# Altium footprint library CON-IDC.PcbLib: 62 footprints (part 3 of 4)
Each footprint in its own frame and in the unit in brackets; x right, y up, seen from the top. Pads: shape width x height; smd on the part's side, far side on the other; paste and mask are expansions set on the pad; w line width, h text height; cw(c..) or ccw(c..) is an arc to the next point about the centre after c.
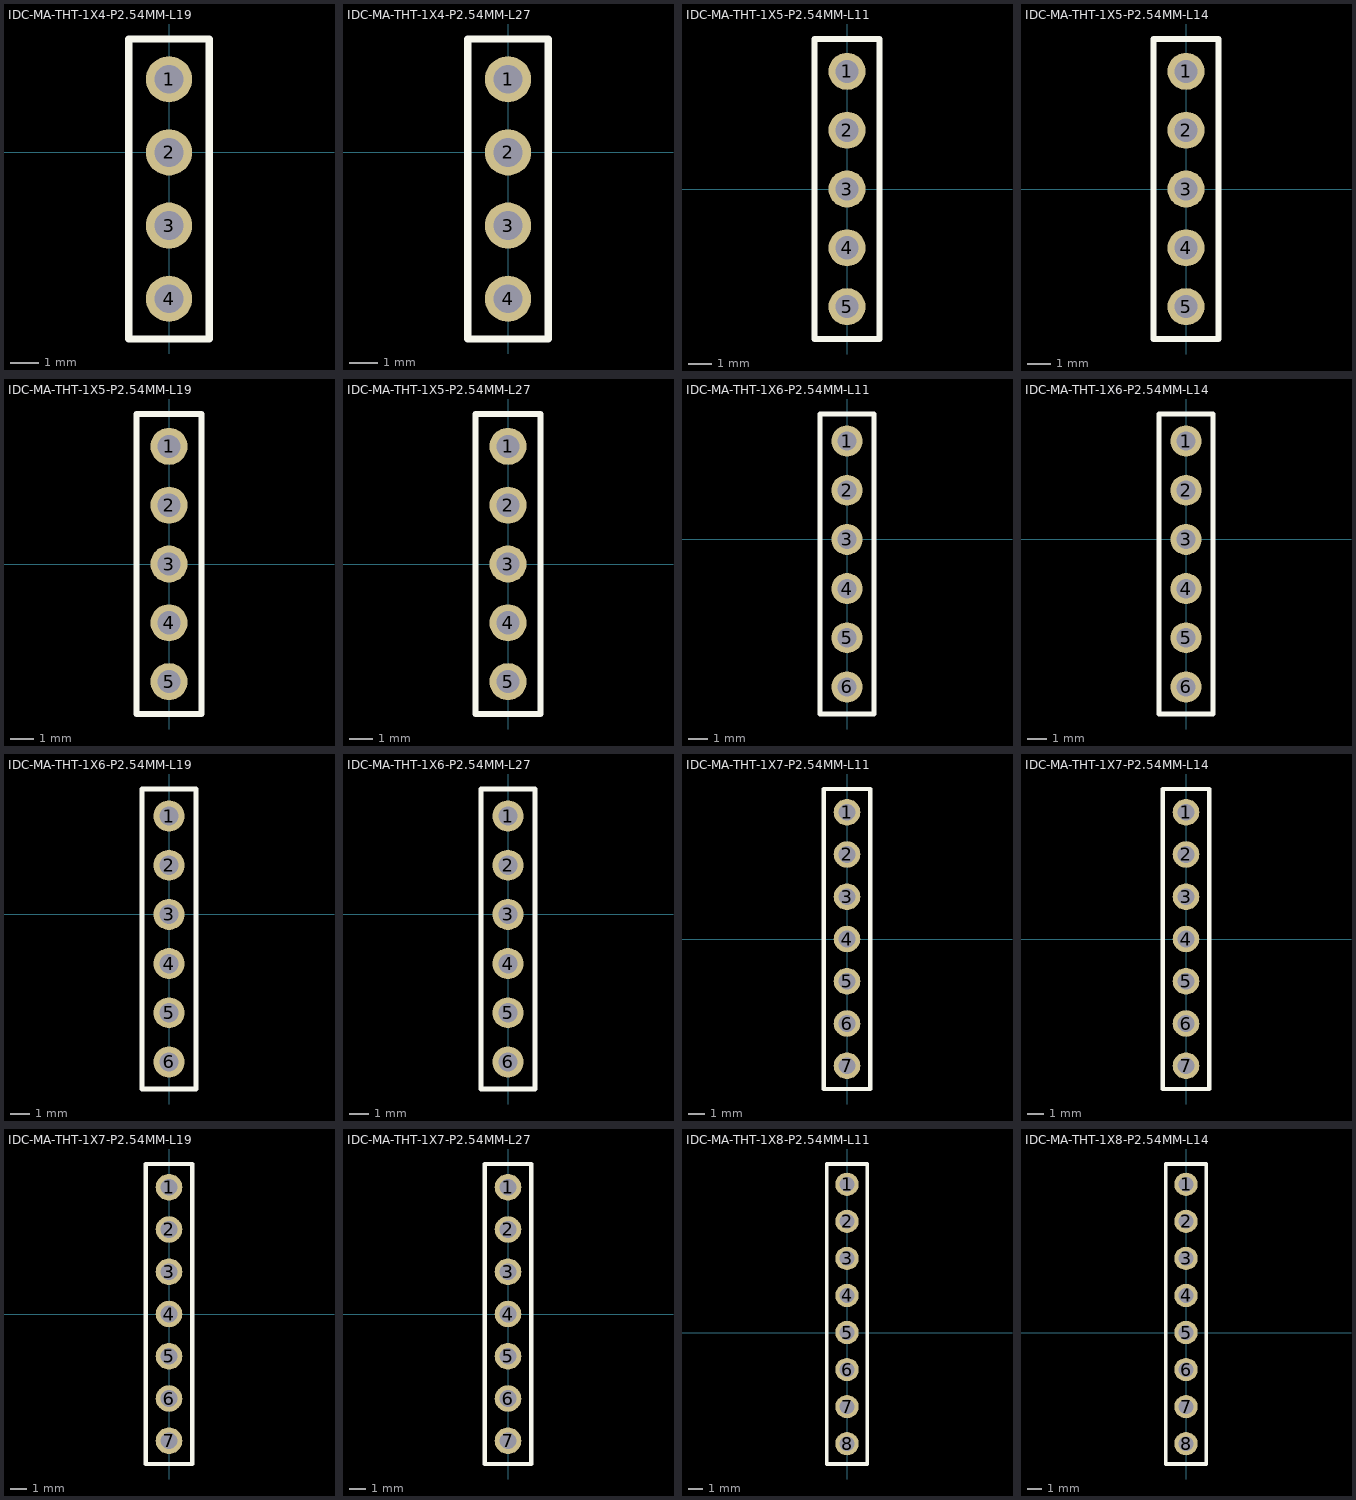
[diagram p2: the footprints below, top view; thin cyan lines are the x and y axes]

## IDC-MA-THT-1X4-P2.54MM-L19 [mm] "IDC-MA-THT-1X4-P2.54MM-L19"
pads (4):
  round 1.6 hole 1: 1(0,2.54) 2(0,0) 3(0,-2.54) 4(0,-5.08)
Top Overlay:
  lines w0.254: -1.397,-6.477 -1.397,3.937 1.397,3.937 1.397,-6.477 -1.397,-6.477
3D body "CON-PIN-L19.stp": height 16.96, standoff -2.54, extent -1.27,1.27 1.27,3.81
3D body "CON-PIN-L19.stp": height 16.96, standoff -2.54, extent -1.27,-1.27 1.27,1.27
3D body "CON-PIN-L19.stp": height 16.96, standoff -2.54, extent -1.27,-3.81 1.27,-1.27
3D body "CON-PIN-L19.stp": height 16.96, standoff -2.54, extent -1.27,-6.35 1.27,-3.81

## IDC-MA-THT-1X4-P2.54MM-L27 [mm] "IDC-MA-THT-1X4-P2.54MM-L27"
pads (4):
  round 1.6 hole 1: 1(0,2.54) 2(0,0) 3(0,-2.54) 4(0,-5.08)
Top Overlay:
  lines w0.254: -1.397,-6.477 -1.397,3.937 1.397,3.937 1.397,-6.477 -1.397,-6.477
3D body "CON-PIN-L27.stp": height 24.46, standoff -2.54, extent -1.27,-6.35 1.27,-3.81
3D body "CON-PIN-L27.stp": height 24.46, standoff -2.54, extent -1.27,-3.81 1.27,-1.27
3D body "CON-PIN-L27.stp": height 24.46, standoff -2.54, extent -1.27,-1.27 1.27,1.27
3D body "CON-PIN-L27.stp": height 24.46, standoff -2.54, extent -1.27,1.27 1.27,3.81

## IDC-MA-THT-1X5-P2.54MM-L11 [mm] "IDC-MA-THT-1X5-P2.54MM-L11"
pads (5):
  round 1.6 hole 1: 1(0,5.08) 2(0,2.54) 3(0,0) 4(0,-2.54) 5(0,-5.08)
Top Overlay:
  lines w0.254: -1.397,-6.477 -1.397,-5.635 -1.397,6.477 1.397,6.477 1.397,-5.762 1.397,-6.477 -1.397,-6.477
3D body "CON-PIN-CORTO.step": height 9.54, standoff -3, extent -1.25,-6.33 1.25,-3.83
3D body "CON-PIN-CORTO.step": height 9.54, standoff -3, extent -1.25,-3.79 1.25,-1.29
3D body "CON-PIN-CORTO.step": height 9.54, standoff -3, extent -1.25,-1.25 1.25,1.25
3D body "CON-PIN-CORTO.step": height 9.54, standoff -3, extent -1.25,1.29 1.25,3.79
3D body "CON-PIN-CORTO.step": height 9.54, standoff -3, extent -1.25,3.83 1.25,6.33

## IDC-MA-THT-1X5-P2.54MM-L14 [mm] "IDC-MA-THT-1X5-P2.54MM-L14"
pads (5):
  round 1.6 hole 1: 1(0,5.08) 2(0,2.54) 3(0,0) 4(0,-2.54) 5(0,-5.08)
Top Overlay:
  lines w0.254: -1.397,-6.477 1.397,-6.477 1.397,-5.762 1.397,6.477 -1.397,6.477 -1.397,-5.635 -1.397,-6.477
3D body "CON-PIN-L14.stp": height 11.46, standoff -2.54, extent -1.27,-6.35 1.27,-3.81
3D body "CON-PIN-L14.stp": height 11.46, standoff -2.54, extent -1.27,-3.81 1.27,-1.27
3D body "CON-PIN-L14.stp": height 11.46, standoff -2.54, extent -1.27,-1.27 1.27,1.27
3D body "CON-PIN-L14.stp": height 11.46, standoff -2.54, extent -1.27,1.27 1.27,3.81
3D body "CON-PIN-L14.stp": height 11.46, standoff -2.54, extent -1.27,3.81 1.27,6.35

## IDC-MA-THT-1X5-P2.54MM-L19 [mm] "IDC-MA-THT-1X5-P2.54MM-L19"
pads (5):
  round 1.6 hole 1: 1(0,5.08) 2(0,2.54) 3(0,0) 4(0,-2.54) 5(0,-5.08)
Top Overlay:
  lines w0.254: -1.397,-6.477 -1.397,-5.635 -1.397,6.477 1.397,6.477 1.397,-5.762 1.397,-6.477 -1.397,-6.477
3D body "CON-PIN-L19.stp": height 16.96, standoff -2.54, extent -1.27,-6.35 1.27,-3.81
3D body "CON-PIN-L19.stp": height 16.96, standoff -2.54, extent -1.27,-3.81 1.27,-1.27
3D body "CON-PIN-L19.stp": height 16.96, standoff -2.54, extent -1.27,-1.27 1.27,1.27
3D body "CON-PIN-L19.stp": height 16.96, standoff -2.54, extent -1.27,1.27 1.27,3.81
3D body "CON-PIN-L19.stp": height 16.96, standoff -2.54, extent -1.27,3.81 1.27,6.35

## IDC-MA-THT-1X5-P2.54MM-L27 [mm] "IDC-MA-THT-1X5-P2.54MM-L27"
pads (5):
  round 1.6 hole 1: 1(0,5.08) 2(0,2.54) 3(0,0) 4(0,-2.54) 5(0,-5.08)
Top Overlay:
  lines w0.254: -1.397,-6.477 -1.397,-5.635 -1.397,6.477 1.397,6.477 1.397,-5.762 1.397,-6.477 -1.397,-6.477
3D body "CON-PIN-L27.stp": height 24.46, standoff -2.54, extent -1.27,-6.35 1.27,-3.81
3D body "CON-PIN-L27.stp": height 24.46, standoff -2.54, extent -1.27,-3.81 1.27,-1.27
3D body "CON-PIN-L27.stp": height 24.46, standoff -2.54, extent -1.27,-1.27 1.27,1.27
3D body "CON-PIN-L27.stp": height 24.46, standoff -2.54, extent -1.27,1.27 1.27,3.81
3D body "CON-PIN-L27.stp": height 24.46, standoff -2.54, extent -1.27,3.81 1.27,6.35

## IDC-MA-THT-1X6-P2.54MM-L11 [mm] "IDC-MA-THT-1X6-P2.54MM-L11"
pads (6):
  round 1.6 hole 1: 1(0,5.08) 2(0,2.54) 3(0,0) 4(0,-2.54) 5(0,-5.08) 6(0,-7.62)
Top Overlay:
  lines w0.254: -1.397,-9.017 1.397,-9.017 1.397,-5.762 1.397,6.477 -1.397,6.477 -1.397,-5.635 -1.397,-9.017
3D body "CON-PIN-CORTO.step": height 9.54, standoff -3, extent -1.25,3.83 1.25,6.33
3D body "CON-PIN-CORTO.step": height 9.54, standoff -3, extent -1.25,1.29 1.25,3.79
3D body "CON-PIN-CORTO.step": height 9.54, standoff -3, extent -1.25,-1.25 1.25,1.25
3D body "CON-PIN-CORTO.step": height 9.54, standoff -3, extent -1.25,-3.79 1.25,-1.29
3D body "CON-PIN-CORTO.step": height 9.54, standoff -3, extent -1.25,-6.33 1.25,-3.83
3D body "CON-PIN-CORTO.step": height 9.54, standoff -3, extent -1.25,-8.87 1.25,-6.37

## IDC-MA-THT-1X6-P2.54MM-L14 [mm] "IDC-MA-THT-1X6-P2.54MM-L14"
pads (6):
  round 1.6 hole 1: 1(0,5.08) 2(0,2.54) 3(0,0) 4(0,-2.54) 5(0,-5.08) 6(0,-7.62)
Top Overlay:
  lines w0.254: -1.397,-9.017 -1.397,-5.635 -1.397,6.477 1.397,6.477 1.397,-5.762 1.397,-9.017 -1.397,-9.017
3D body "CON-PIN-L14.stp": height 11.46, standoff -2.54, extent -1.27,3.81 1.27,6.35
3D body "CON-PIN-L14.stp": height 11.46, standoff -2.54, extent -1.27,1.27 1.27,3.81
3D body "CON-PIN-L14.stp": height 11.46, standoff -2.54, extent -1.27,-1.27 1.27,1.27
3D body "CON-PIN-L14.stp": height 11.46, standoff -2.54, extent -1.27,-3.81 1.27,-1.27
3D body "CON-PIN-L14.stp": height 11.46, standoff -2.54, extent -1.27,-6.35 1.27,-3.81
3D body "CON-PIN-L14.stp": height 11.46, standoff -2.54, extent -1.27,-8.89 1.27,-6.35

## IDC-MA-THT-1X6-P2.54MM-L19 [mm] "IDC-MA-THT-1X6-P2.54MM-L19"
pads (6):
  round 1.6 hole 1: 1(0,5.08) 2(0,2.54) 3(0,0) 4(0,-2.54) 5(0,-5.08) 6(0,-7.62)
Top Overlay:
  lines w0.254: -1.397,-9.017 1.397,-9.017 1.397,-5.762 1.397,6.477 -1.397,6.477 -1.397,-5.635 -1.397,-9.017
3D body "CON-PIN-L19.stp": height 16.96, standoff -2.54, extent -1.27,3.81 1.27,6.35
3D body "CON-PIN-L19.stp": height 16.96, standoff -2.54, extent -1.27,1.27 1.27,3.81
3D body "CON-PIN-L19.stp": height 16.96, standoff -2.54, extent -1.27,-1.27 1.27,1.27
3D body "CON-PIN-L19.stp": height 16.96, standoff -2.54, extent -1.27,-3.81 1.27,-1.27
3D body "CON-PIN-L19.stp": height 16.96, standoff -2.54, extent -1.27,-6.35 1.27,-3.81
3D body "CON-PIN-L19.stp": height 16.96, standoff -2.54, extent -1.27,-8.89 1.27,-6.35

## IDC-MA-THT-1X6-P2.54MM-L27 [mm] "IDC-MA-THT-1X6-P2.54MM-L27"
pads (6):
  round 1.6 hole 1: 1(0,5.08) 2(0,2.54) 3(0,0) 4(0,-2.54) 5(0,-5.08) 6(0,-7.62)
Top Overlay:
  lines w0.254: -1.397,-9.017 -1.397,-5.635 -1.397,6.477 1.397,6.477 1.397,-5.762 1.397,-9.017 -1.397,-9.017
3D body "CON-PIN-L27.stp": height 24.46, standoff -2.54, extent -1.27,-8.89 1.27,-6.35
3D body "CON-PIN-L27.stp": height 24.46, standoff -2.54, extent -1.27,-6.35 1.27,-3.81
3D body "CON-PIN-L27.stp": height 24.46, standoff -2.54, extent -1.27,-3.81 1.27,-1.27
3D body "CON-PIN-L27.stp": height 24.46, standoff -2.54, extent -1.27,-1.27 1.27,1.27
3D body "CON-PIN-L27.stp": height 24.46, standoff -2.54, extent -1.27,1.27 1.27,3.81
3D body "CON-PIN-L27.stp": height 24.46, standoff -2.54, extent -1.27,3.81 1.27,6.35

## IDC-MA-THT-1X7-P2.54MM-L11 [mm] "IDC-MA-THT-1X7-P2.54MM-L11"
pads (7):
  round 1.6 hole 1: 1(0,7.62) 2(0,5.08) 3(0,2.54) 4(0,0) 5(0,-2.54) 6(0,-5.08) 7(0,-7.62)
Top Overlay:
  lines w0.254: -1.397,-9.017 1.397,-9.017 1.397,-3.222 1.397,9.017 -1.397,9.017 -1.397,-3.095 -1.397,-9.017
3D body "CON-PIN-CORTO.step": height 9.54, standoff -3, extent -1.25,6.37 1.25,8.87
3D body "CON-PIN-CORTO.step": height 9.54, standoff -3, extent -1.25,3.83 1.25,6.33
3D body "CON-PIN-CORTO.step": height 9.54, standoff -3, extent -1.25,1.29 1.25,3.79
3D body "CON-PIN-CORTO.step": height 9.54, standoff -3, extent -1.25,-1.25 1.25,1.25
3D body "CON-PIN-CORTO.step": height 9.54, standoff -3, extent -1.25,-3.79 1.25,-1.29
3D body "CON-PIN-CORTO.step": height 9.54, standoff -3, extent -1.25,-6.33 1.25,-3.83
3D body "CON-PIN-CORTO.step": height 9.54, standoff -3, extent -1.25,-8.87 1.25,-6.37

## IDC-MA-THT-1X7-P2.54MM-L14 [mm] "IDC-MA-THT-1X7-P2.54MM-L14"
pads (7):
  round 1.6 hole 1: 1(0,7.62) 2(0,5.08) 3(0,2.54) 4(0,0) 5(0,-2.54) 6(0,-5.08) 7(0,-7.62)
Top Overlay:
  lines w0.254: -1.397,-9.017 1.397,-9.017 1.397,-3.222 1.397,9.017 -1.397,9.017 -1.397,-3.095 -1.397,-9.017
3D body "CON-PIN-L14.stp": height 11.46, standoff -2.54, extent -1.27,-8.89 1.27,-6.35
3D body "CON-PIN-L14.stp": height 11.46, standoff -2.54, extent -1.27,-6.35 1.27,-3.81
3D body "CON-PIN-L14.stp": height 11.46, standoff -2.54, extent -1.27,-3.81 1.27,-1.27
3D body "CON-PIN-L14.stp": height 11.46, standoff -2.54, extent -1.27,-1.27 1.27,1.27
3D body "CON-PIN-L14.stp": height 11.46, standoff -2.54, extent -1.27,1.27 1.27,3.81
3D body "CON-PIN-L14.stp": height 11.46, standoff -2.54, extent -1.27,3.81 1.27,6.35
3D body "CON-PIN-L14.stp": height 11.46, standoff -2.54, extent -1.27,6.35 1.27,8.89

## IDC-MA-THT-1X7-P2.54MM-L19 [mm] "IDC-MA-THT-1X7-P2.54MM-L19"
pads (7):
  round 1.6 hole 1: 1(0,7.62) 2(0,5.08) 3(0,2.54) 4(0,0) 5(0,-2.54) 6(0,-5.08) 7(0,-7.62)
Top Overlay:
  lines w0.254: -1.397,-9.017 1.397,-9.017 1.397,-3.222 1.397,9.017 -1.397,9.017 -1.397,-3.095 -1.397,-9.017
3D body "CON-PIN-L19.stp": height 16.96, standoff -2.54, extent -1.27,-6.35 1.27,-3.81
3D body "CON-PIN-L19.stp": height 16.96, standoff -2.54, extent -1.27,-8.89 1.27,-6.35
3D body "CON-PIN-L19.stp": height 16.96, standoff -2.54, extent -1.27,-3.81 1.27,-1.27
3D body "CON-PIN-L19.stp": height 16.96, standoff -2.54, extent -1.27,-1.27 1.27,1.27
3D body "CON-PIN-L19.stp": height 16.96, standoff -2.54, extent -1.27,1.27 1.27,3.81
3D body "CON-PIN-L19.stp": height 16.96, standoff -2.54, extent -1.27,3.81 1.27,6.35
3D body "CON-PIN-L19.stp": height 16.96, standoff -2.54, extent -1.27,6.35 1.27,8.89

## IDC-MA-THT-1X7-P2.54MM-L27 [mm] "IDC-MA-THT-1X7-P2.54MM-L27"
pads (7):
  round 1.6 hole 1: 1(0,7.62) 2(0,5.08) 3(0,2.54) 4(0,0) 5(0,-2.54) 6(0,-5.08) 7(0,-7.62)
Top Overlay:
  lines w0.254: -1.397,-9.017 1.397,-9.017 1.397,-3.222 1.397,9.017 -1.397,9.017 -1.397,-3.095 -1.397,-9.017
3D body "CON-PIN-L27.stp": height 24.46, standoff -2.54, extent -1.27,-8.89 1.27,-6.35
3D body "CON-PIN-L27.stp": height 24.46, standoff -2.54, extent -1.27,-6.35 1.27,-3.81
3D body "CON-PIN-L27.stp": height 24.46, standoff -2.54, extent -1.27,-3.81 1.27,-1.27
3D body "CON-PIN-L27.stp": height 24.46, standoff -2.54, extent -1.27,-1.27 1.27,1.27
3D body "CON-PIN-L27.stp": height 24.46, standoff -2.54, extent -1.27,1.27 1.27,3.81
3D body "CON-PIN-L27.stp": height 24.46, standoff -2.54, extent -1.27,3.81 1.27,6.35
3D body "CON-PIN-L27.stp": height 24.46, standoff -2.54, extent -1.27,6.35 1.27,8.89

## IDC-MA-THT-1X8-P2.54MM-L11 [mm] "IDC-MA-THT-1X8-P2.54MM-L11"
pads (8):
  round 1.6 hole 1: 1(0,10.16) 2(0,7.62) 3(0,5.08) 4(0,2.54) 5(0,0) 6(0,-2.54) 7(0,-5.08) 8(0,-7.62)
Top Overlay:
  lines w0.254: -1.397,-9.017 1.397,-9.017 1.397,-0.682 1.397,11.557 -1.397,11.557 -1.397,-0.555 -1.397,-9.017
3D body "CON-PIN-CORTO.step": height 9.54, standoff -3, extent -1.25,8.91 1.25,11.41
3D body "CON-PIN-CORTO.step": height 9.54, standoff -3, extent -1.25,6.37 1.25,8.87
3D body "CON-PIN-CORTO.step": height 9.54, standoff -3, extent -1.25,3.83 1.25,6.33
3D body "CON-PIN-CORTO.step": height 9.54, standoff -3, extent -1.25,1.29 1.25,3.79
3D body "CON-PIN-CORTO.step": height 9.54, standoff -3, extent -1.25,-1.25 1.25,1.25
3D body "CON-PIN-CORTO.step": height 9.54, standoff -3, extent -1.25,-3.79 1.25,-1.29
3D body "CON-PIN-CORTO.step": height 9.54, standoff -3, extent -1.25,-6.33 1.25,-3.83
3D body "CON-PIN-CORTO.step": height 9.54, standoff -3, extent -1.25,-8.87 1.25,-6.37

## IDC-MA-THT-1X8-P2.54MM-L14 [mm] "IDC-MA-THT-1X8-P2.54MM-L14"
pads (8):
  round 1.6 hole 1: 1(0,10.16) 2(0,7.62) 3(0,5.08) 4(0,2.54) 5(0,0) 6(0,-2.54) 7(0,-5.08) 8(0,-7.62)
Top Overlay:
  lines w0.254: -1.397,-9.017 -1.397,-0.555 -1.397,11.557 1.397,11.557 1.397,-0.682 1.397,-9.017 -1.397,-9.017
3D body "CON-PIN-L14.stp": height 11.46, standoff -2.54, extent -1.27,-8.89 1.27,-6.35
3D body "CON-PIN-L14.stp": height 11.46, standoff -2.54, extent -1.27,-6.35 1.27,-3.81
3D body "CON-PIN-L14.stp": height 11.46, standoff -2.54, extent -1.27,-3.81 1.27,-1.27
3D body "CON-PIN-L14.stp": height 11.46, standoff -2.54, extent -1.27,-1.27 1.27,1.27
3D body "CON-PIN-L14.stp": height 11.46, standoff -2.54, extent -1.27,1.27 1.27,3.81
3D body "CON-PIN-L14.stp": height 11.46, standoff -2.54, extent -1.27,3.81 1.27,6.35
3D body "CON-PIN-L14.stp": height 11.46, standoff -2.54, extent -1.27,6.35 1.27,8.89
3D body "CON-PIN-L14.stp": height 11.46, standoff -2.54, extent -1.27,8.89 1.27,11.43